# EAGLE library part SWITCH_56A36 (library 1A-meinLib)
Ten (10) pole switch, short protected, 36°, Grayhill 56A36, RS-Component
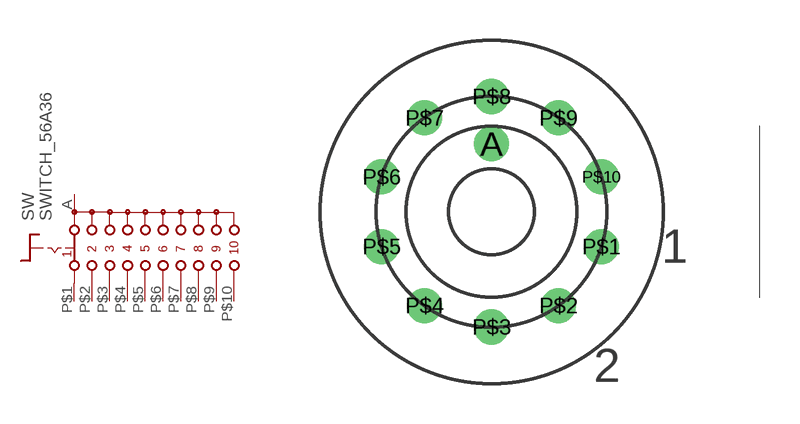
[diagram p25: symbol with the pads of SWITCH_56A36; footprint SWITCH_56A36]

Designator prefix SW

## SWITCH_56A36  [SWITCH_56A36]
A  A  pas
P$1  1  pas
P$2  2  pas
P$3  3  pas
P$4  4  pas
P$5  5  pas
P$6  6  pas
P$7  7  pas
P$8  8  pas
P$9  9  pas
P$10  10  pas

## Footprint SWITCH_56A36 (pad centres in mm)
drill 0.8 round: A 0,2.54; P$1 4.1,-1.3; P$2 2.5,-3.5; P$3 0,-4.3; P$4 -2.5,-3.5; P$5 -4.1,-1.3; P$6 -4.1,1.3; P$7 -2.5,3.5; P$8 0,4.3; P$9 2.5,3.5; P$10 4.1,1.3